# Altium footprint library WPME-VDMM.PcbLib: 4 footprints
Each footprint in its own frame and in the unit in brackets; x right, y up, seen from the top. Pads: shape width x height; smd on the part's side, far side on the other; paste and mask are expansions set on the pad; w line width, h text height; cw(c..) or ccw(c..) is an arc to the next point about the centre after c.
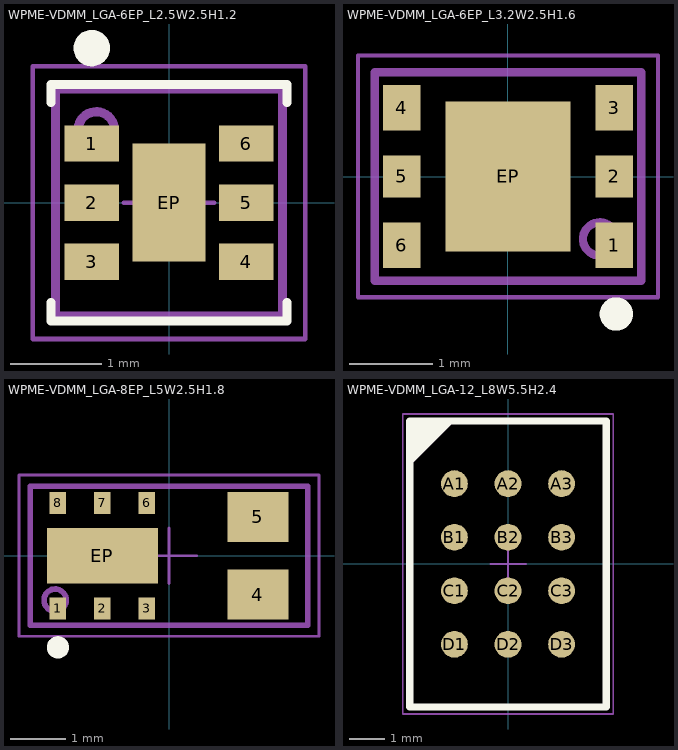
[diagram p0: the footprints below, top view; thin cyan lines are the x and y axes]

## WPME-VDMM_LGA-6EP_L2.5W2.5H1.2 [mm] "Variable Step Down MicroModule, LGA-6EP, body 2.50x2.50mm"
height 1.21
pads (7):
  rect 0.6x0.4 smd: 1(-0.85,0.65) 2(-0.85,0) 3(-0.85,-0.65) 4(0.85,-0.65) 5(0.85,0) 6(0.85,0.65)
  rect 0.8x1.3 smd: EP(0,0)
Top Overlay:
  circle w0.2: c-0.85,1.7 r0.1
  lines w0.1: -1.3,-1.1 -1.3,-1.3 1.3,-1.3 1.3,-1.1 ; -1.3,1.1 -1.3,1.3 1.3,1.3 1.3,1.1
Top Component Outline:
  circle w0.1: c-0.8,0.8 r0.2
  lines w0.1: -1.25,-1.25 -1.25,1.25 1.25,1.25 1.25,-1.25 -1.25,-1.25
Top Courtyard:
  lines w0.05: -1.5,-1.5 -1.5,1.5 1.5,1.5 1.5,-1.5 -1.5,-1.5
Top Component Center:
  lines w0.05: -0.5,0 0.5,0 ; 0,-0.5 0,0.5
Top Designator (Mech19):
  text ".Designator" at -3.499,-0.233 h0.7
3D body "171010550 (rev1).stp": height 1.23, standoff 0.02, extent -1.25,-1.25 1.25,1.25

## WPME-VDMM_LGA-6EP_L3.2W2.5H1.6 [mm] "Variable Step Down MicroModule, LGA-6EP, body 3.20x2.50mm"
height 1.6
pads (7):
  rect 0.45x0.55 smd: 1(1.275,-0.825) 3(1.275,0.825) 4(-1.275,0.825) 6(-1.275,-0.825)
  rect 0.45x0.5 smd: 2(1.275,0) 5(-1.275,0)
  rect 1.5x1.8 smd: EP(0,0)
Top Overlay:
  circle w0.2: c1.3,-1.65 r0.1
Top Component Outline:
  circle w0.1: c1.1,-0.75 r0.2
  lines w0.1: -1.6,-1.25 1.6,-1.25 1.6,1.25 -1.6,1.25 -1.6,-1.25
Top Courtyard:
  lines w0.05: -1.8,-1.45 1.8,-1.45 1.8,1.45 -1.8,1.45 -1.8,-1.45
Top Component Center:
  lines w0.05: -0.5,0 0.5,0 ; 0,-0.5 0,0.5
Top Designator (Mech19):
  text ".Designator" at -3.499,-0.233 h0.7
3D body "171010501.stp": height 1.55, standoff 0, extent -1.6,-1.25 1.6,1.25

## WPME-VDMM_LGA-8EP_L5W2.5H1.8 [mm] "Variable Step Down MicroModule, LGA-8EP, body 5.00x2.50mm"
height 1.8
pads (9):
  rect 0.3x0.4 smd: 1(-2,-0.95) 2(-1.2,-0.95) 3(-0.4,-0.95) 6(-0.4,0.95) 7(-1.2,0.95) 8(-2,0.95)
  rect 1.1x0.9 smd: 4(1.6,-0.7) 5(1.6,0.7)
  rect 2x1 smd: EP(-1.2,0)
Top Overlay:
  circle w0.2: c-2,-1.65 r0.1
Top Component Outline:
  circle w0.1: c-2.05,-0.8 r0.2
  lines w0.1: -2.5,-1.25 -2.5,1.25 2.5,1.25 2.5,-1.25 -2.5,-1.25
Top Courtyard:
  lines w0.05: -2.7,-1.45 -2.7,1.45 2.7,1.45 2.7,-1.45 -2.7,-1.45
Top Component Center:
  lines w0.05: -0.5,0 0.5,0 ; 0,-0.5 0,0.5
Top Designator (Mech19):
  text ".Designator" at -4.998,-0.333 h1
3D body "171930601.stp": height 1.73, standoff 0.02, extent -2.5,-1.25 2.5,1.25

## WPME-VDMM_LGA-12_L8W5.5H2.4 [mm] "Variable Step Down MicroModule, LGA-12"
height 2.4
pads (12):
  round 0.75 smd: A1(-1.5,2.25) A2(0,2.25) A3(1.5,2.25) B1(-1.5,0.75) B2(0,0.75) B3(1.5,0.75) C1(-1.5,-0.75) C2(0,-0.75) C3(1.5,-0.75) D1(-1.5,-2.25) D2(0,-2.25) D3(1.5,-2.25)
Top Overlay:
  region: -2.75,4 -1.5,4 -2.75,2.75
  lines w0.2: -2.75,-4 2.75,-4 2.75,4 -2.75,4 -2.75,-4
Assembly Notes:
  text "NOTE: Place the GND pad of the input capacitor as close as possible to pins C2 and C3. Connect it with short and wide traces directly to C2 and C3." at -6.1,-6 h0.5
Top Component Outline:
  region: -2.75,4 -1.5,4 -2.75,2.75
  lines w0.1: -2.75,-4 2.75,-4 2.75,4 -2.75,4 -2.75,-4
Top Courtyard:
  lines w0.05: -2.95,-4.2 2.95,-4.2 2.95,4.2 -2.95,4.2 -2.95,-4.2
Top Component Center:
  lines w0.05: -0.5,0 0.5,0 ; 0,-0.5 0,0.5
Top Designator (Mech19):
  text ".Designator" at -7.498,-0.5 h1.5
3D body "171936001.stp": height 2.37, standoff 0.05, extent -2.75,-4 2.75,4